# EAGLE library part LTC3805-5 (library dubec)
LTC3805-5 - Adjustable Frequency Current Mode Flyback/ Boost/SEPIC DC/DC Controller
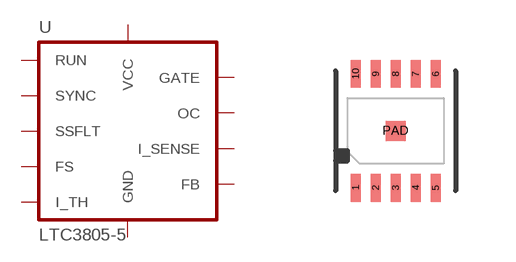
[diagram p28: symbol with the pads of 10-WFDFN; footprint 10-WFDFN]

Designator prefix -

## LTC3805-5IDD (DIGIKEY_PART_#: LTC3805IDD-5#PBF-ND; EPK: 1609.00; MANUFACTURER: Linear Technology; MFG_PART_#: LTC3805IDD-5#PBF; TEMP: -40°C ~ 125°C (TJ))  [10-WFDFN]
1  SSFLT  pas
2  I_TH  pas
3  FB  pas
4  RUN  pas
5  FS  pas
6  GATE  pas
7  VCC  pwr
8  OC  pas
9  I_SENSE  pas
10  SYNC  pas
PAD  GND  pwr

## Footprint 10-WFDFN (pad centres in mm)
smd 0.25 x 0.7: 1 -1,-1.425; 2 -0.5,-1.425; 3 0,-1.425; 4 0.5,-1.425; 5 1,-1.425; 6 1,1.425; 7 0.5,1.425; 8 0,1.425; 9 -0.5,1.425; 10 -1,1.425
smd 0.5 x 0.5: PAD 0,0